# EAGLE library part 61300911121 (library Eagle_BOARD-TO-BOARD_CONNECTORS (rev18b))
WR_PHD 2.54mm Pin Header, 9 Pins =>Code : Con_BTB_PHD_2.54_1_THT_61300911121 <http://katalog.we-online.de/media/images/eican/Con_BTB_PHD_2.54_1_THT_6130xx11121_pf2.jpg> Details see: http://katalog.we-online.de/en/em/613_0xx_111_21 Created 2014-05-29, Karrer Zheng 2014 (C) Würth Elektronik
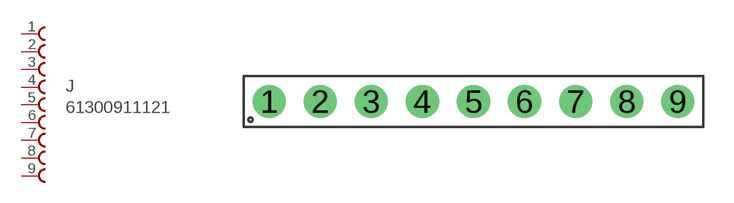
[diagram p3: symbol with the pads of 61300911121; footprint 61300911121]

Designator prefix J

## 61300911121  [61300911121]
1  1  pas
2  2  pas
3  3  pas
4  4  pas
5  5  pas
6  6  pas
7  7  pas
8  8  pas
9  9  pas

## Footprint 61300911121 (pad centres in mm)
WR-PHD 2.54mm Pin Header, 9 Pins
drill 1.1: 1 -10.16,0; 2 -7.62,0; 3 -5.08,0; 4 -2.54,0; 5 0,0; 6 2.54,0; 7 5.08,0; 8 7.62,0; 9 10.16,0